# Altium integrated library Analog Devices Switches and Multiplexers Multiplexers (Muxes).IntLib: 481 symbols (part 9 of 23)
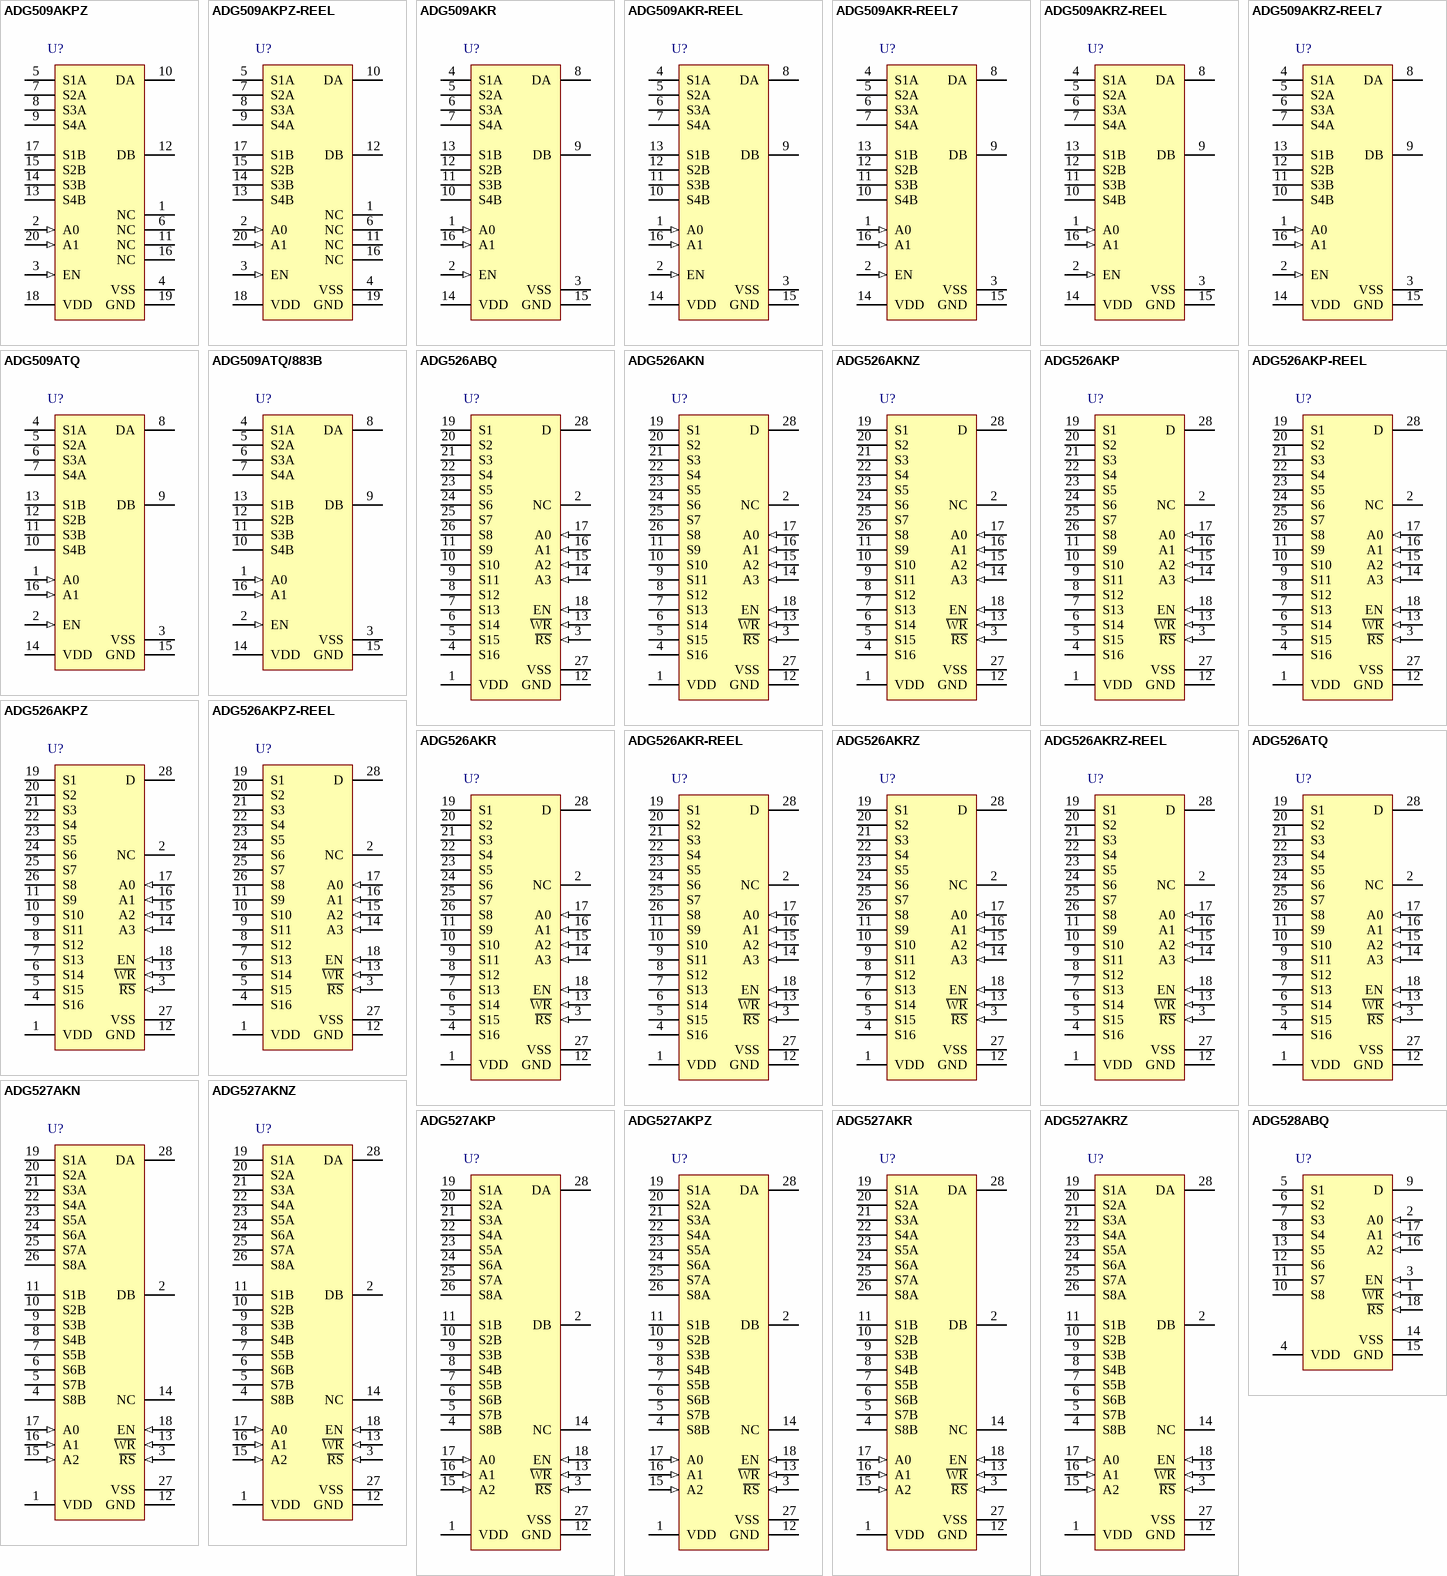
[diagram p25: symbols ADG509AKPZ to ADG528ABQ]

## ADG527AKRZ
designator U?
CMOS Latched 8-Channel Analog Multiplexer, -40 to 85 degC, 28-pin SOIC (RW-28), Tube; Manufacturer: Analog Devices; PartNumber: ADG527AKRZ; Max Analog Signal Range: Vss to Vdd; Ron (ohms): 280; Supply V Guar Performance: Dual_(+/-12V), Dual_(+/-15V), Single_(+12V), Single_(+15V); t transition (s): 200n; DatasheetVersion: Rev. C; PackageVersion: 060706-A, 06/2006; PackageReference: RW-28; PackageDescription: 28-Pin Standard Small Outline Package, Body 17.9 x 7.5 mm, Pitch 1.27 mm; Supplier 1: Mouser; Supplier Part Number 1: 584-ADG527AKRZ; Packing: Tube; Mounting Technology: Surface Mount; Code_JEDEC: MS-013-AE; ComponentLink1Description: Manufacturer URL; ComponentLink1URL: http://www.analog.com/en/index.html; ComponentLink2Description: Datasheet; ComponentLink2URL: http://www.analog.com/static/imported-files/data_sheets/ADG526A_527A.pdf; ComponentLink3Description: Package Specification; ComponentLink3URL: http://www.analog.com/static/imported-files/packages/35833120341221RW_28.pdf
footprint ADI-RW-28_N (SOIC, 28-Leads, Body 17.9x7.5mm, Pitch 1.27mm, IPC Medium Density)
footprint ADI-RW-28_L (SOIC, 28-Leads, Body 17.9x7.5mm, Pitch 1.27mm, IPC High Density)
footprint ADI-RW-28_M (SOIC, 28-Leads, Body 17.9x7.5mm, Pitch 1.27mm, IPC Low Density)
pins: 1 VDD (power) "Most Positive Power Supply Potential.", 2 DB "Drain Terminal. This pin can be an input or output.", 3 ~{RS} (in) "Reset. The R\S\ signal clears both the address and enable data in the latches resulting in no output (all switches off).", 4 S8B "Source Terminal. This pin can be an input or output.", 5 S7B "Source Terminal. This pin can be an input or output.", 6 S6B "Source Terminal. This pin can be an input or output.", 7 S5B "Source Terminal. This pin can be an input or output.", 8 S4B "Source Terminal. This pin can be an input or output.", 9 S3B "Source Terminal. This pin can be an input or output.", 10 S2B "Source Terminal. This pin can be an input or output.", 11 S1B "Source Terminal. This pin can be an input or output.", 12 GND (power) "Ground (0 V) Reference.", 13 ~{WR} (in) "Write. The W\R\ signal latches the state of the address control lines and the enable line.", 14 NC "No Connect.", 15 A2 (in) "Logic Control Inputs. Selects which source terminal is connected to the drain (D).", 16 A1 (in) "Logic Control Inputs. Selects which source terminal is connected to the drain (D).", 17 A0 (in) "Logic Control Inputs. Selects which source terminal is connected to the drain (D).", 18 EN (in) "Enable. Active high logic control input.", 19 S1A "Source Terminal. This pin can be an input or output.", 20 S2A "Source Terminal. This pin can be an input or output.", 21 S3A "Source Terminal. This pin can be an input or output.", 22 S4A "Source Terminal. This pin can be an input or output.", 23 S5A "Source Terminal. This pin can be an input or output.", 24 S6A "Source Terminal. This pin can be an input or output.", 25 S7A "Source Terminal. This pin can be an input or output.", 26 S8A "Source Terminal. This pin can be an input or output.", 27 VSS (power) "Most Negative Power Supply Potential.", 28 DA "Drain Terminal. This pin can be an input or output."

## ADG528ABQ
designator U?
CMOS Latched 8-Channel Analog Multiplexer, -40 to 85 degC, 18-pin DIP (Q-18); Manufacturer: Analog Devices; PartNumber: ADG528ABQ; Max Analog Signal Range: Vss to Vdd; Ron (ohms): 280; Supply V Guar Performance: Dual_(+/-12V), Dual_(+/-15V), Single_(+12V), Single_(+15V); t transition (s): 200n; DatasheetVersion: Rev. B; PackageVersion: Dec-04; PackageReference: Q-18; PackageDescription: 18-Pin Ceramic Dual In-Line Package, Row spacing 7.62 mm, Pitch 2.54 mm; Supplier 1: Digi-Key; Supplier Part Number 1: ADG528ABQ-ND; Mounting Technology: Through Hole; ComponentLink1Description: Manufacturer URL; ComponentLink1URL: http://www.analog.com/en/index.html; ComponentLink2Description: Datasheet; ComponentLink2URL: http://www.analog.com/static/imported-files/data_sheets/ADG528A_529A.pdf; ComponentLink3Description: Package Specification; ComponentLink3URL: http://www.analog.com/static/imported-files/packages/3949539816247344490Q_18.pdf
footprint ADI-Q-18 (DIP, 18-Leads, Body 24.38x6.73mm, Pitch 2.54mm)
pins: 1 ~{WR} (in), 2 A0 (in), 3 EN (in), 4 VDD (power), 5 S1, 6 S2, 7 S3, 8 S4, 9 D, 10 S8, 11 S7, 12 S6, 13 S5, 14 VSS (power), 15 GND (power), 16 A2 (in), 17 A1 (in), 18 ~{RS} (in)

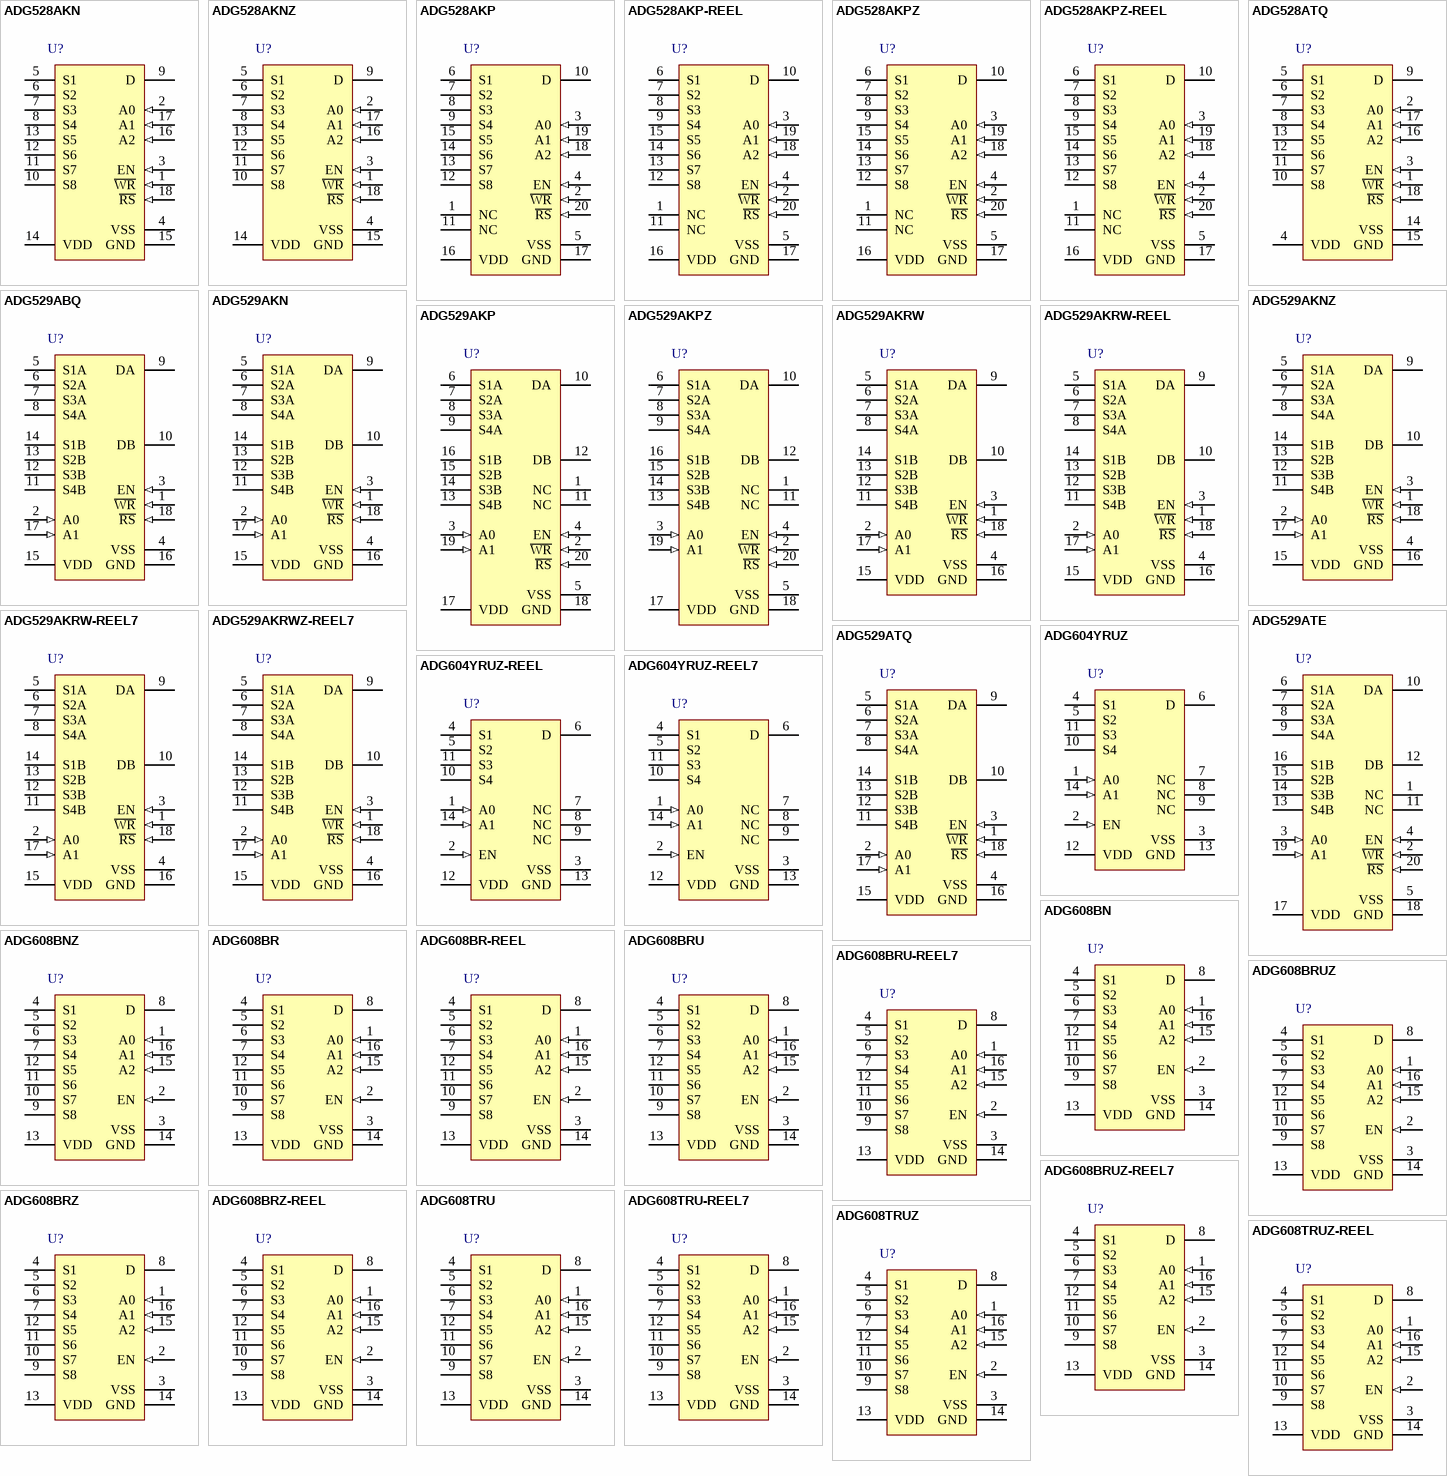
[diagram p7: symbols ADG528AKN to ADG608TRUZ-REEL]

## ADG528AKN
designator U?
CMOS Latched 8-Channel Analog Multiplexer, -40 to 85 degC, 18-pin DIP (N-18), Tube; Manufacturer: Analog Devices; PartNumber: ADG528AKN; Max Analog Signal Range: Vss to Vdd; Ron (ohms): 280; Supply V Guar Performance: Dual_(+/-12V), Dual_(+/-15V), Single_(+12V), Single_(+15V); t transition (s): 200n; DatasheetVersion: Rev. B; PackageVersion: 070706-A, 07/2006; PackageReference: N-18; PackageDescription: 18-Pin Plastic Dual In-Line Package, Row spacing 7.62 mm, Pitch 2.54 mm; Supplier 1: Digi-Key; Supplier Part Number 1: ADG528AKN-ND; Supplier 2: Mouser; Supplier Part Number 2: 584-ADG528AKN; Packing: Tube; Mounting Technology: Through Hole; Code_JEDEC: MS-001; ComponentLink1Description: Manufacturer URL; ComponentLink1URL: http://www.analog.com/en/index.html; ComponentLink2Description: Datasheet; ComponentLink2URL: http://www.analog.com/static/imported-files/data_sheets/ADG528A_529A.pdf; ComponentLink3Description: Package Specification; ComponentLink3URL: http://www.analog.com/static/imported-files/packages/44930452931834N_18.pdf
footprint ADI-N-18 (DIP, 18-Leads, Body 22.86x6.6mm, Pitch 2.54mm)
pins: 1 ~{WR} (in), 2 A0 (in), 3 EN (in), 4 VSS (power), 5 S1, 6 S2, 7 S3, 8 S4, 9 D, 10 S8, 11 S7, 12 S6, 13 S5, 14 VDD (power), 15 GND (power), 16 A2 (in), 17 A1 (in), 18 ~{RS} (in)

## ADG528AKNZ
designator U?
CMOS Latched 8-Channel Analog Multiplexer, -40 to 85 degC, 18-pin DIP (N-18), Tube; Manufacturer: Analog Devices; PartNumber: ADG528AKNZ; Max Analog Signal Range: Vss to Vdd; Ron (ohms): 280; Supply V Guar Performance: Dual_(+/-12V), Dual_(+/-15V), Single_(+12V), Single_(+15V); t transition (s): 200n; DatasheetVersion: Rev. B; PackageVersion: 070706-A, 07/2006; PackageReference: N-18; PackageDescription: 18-Pin Plastic Dual In-Line Package, Row spacing 7.62 mm, Pitch 2.54 mm; Supplier 1: Digi-Key; Supplier Part Number 1: ADG528AKNZ-ND; Supplier 2: Farnell; Supplier Part Number 2: 1581901; Supplier 3: Newark; Supplier Part Number 3: 19M0679; Supplier 4: Mouser; Supplier Part Number 4: 584-ADG528AKNZ; Packing: Tube; Mounting Technology: Through Hole; Code_JEDEC: MS-001; ComponentLink1Description: Manufacturer URL; ComponentLink1URL: http://www.analog.com/en/index.html; ComponentLink2Description: Datasheet; ComponentLink2URL: http://www.analog.com/static/imported-files/data_sheets/ADG528A_529A.pdf; ComponentLink3Description: Package Specification; ComponentLink3URL: http://www.analog.com/static/imported-files/packages/44930452931834N_18.pdf
footprint ADI-N-18 (DIP, 18-Leads, Body 22.86x6.6mm, Pitch 2.54mm)
pins: 1 ~{WR} (in), 2 A0 (in), 3 EN (in), 4 VSS (power), 5 S1, 6 S2, 7 S3, 8 S4, 9 D, 10 S8, 11 S7, 12 S6, 13 S5, 14 VDD (power), 15 GND (power), 16 A2 (in), 17 A1 (in), 18 ~{RS} (in)

## ADG528AKP
designator U?
CMOS Latched 8-Channel Analog Multiplexer, -40 to 85 degC, 20-pin PLCC (P-20A), Tube; Manufacturer: Analog Devices; PartNumber: ADG528AKP; Max Analog Signal Range: Vss to Vdd; Ron (ohms): 280; Supply V Guar Performance: Dual_(+/-12V), Dual_(+/-15V), Single_(+12V), Single_(+15V); t transition (s): 200n; DatasheetVersion: Rev. B; PackageVersion: Nov-02; PackageReference: P-20A; PackageDescription: 20-Pin Plastic Leaded Chip Carrier, Body 8.97 x 8.97 mm, Pitch 1.27 mm; Supplier 1: Digi-Key; Supplier Part Number 1: ADG528AKP-ND; Supplier 2: Mouser; Supplier Part Number 2: 584-ADG528AKP; Packing: Tube; Mounting Technology: Surface Mount; Code_JEDEC: MO-047AA; ComponentLink1Description: Manufacturer URL; ComponentLink1URL: http://www.analog.com/en/index.html; ComponentLink2Description: Datasheet; ComponentLink2URL: http://www.analog.com/static/imported-files/data_sheets/ADG528A_529A.pdf; ComponentLink3Description: Package Specification; ComponentLink3URL: http://www.analog.com/static/imported-files/packages/3121431516544404277643669223804694P20A.pdf
footprint ADI-P-20A_N (PLCC, 20-Leads, Body 8.965x8.965mm, Pitch 1.27mm, IPC Medium Density)
footprint ADI-P-20A_L (PLCC, 20-Leads, Body 8.965x8.965mm, Pitch 1.27mm, IPC High Density)
footprint ADI-P-20A_M (PLCC, 20-Leads, Body 8.965x8.965mm, Pitch 1.27mm, IPC Low Density)
pins: 1 NC, 2 ~{WR} (in), 3 A0 (in), 4 EN (in), 5 VSS (power), 6 S1, 7 S2, 8 S3, 9 S4, 10 D, 11 NC, 12 S8, 13 S7, 14 S6, 15 S5, 16 VDD (power), 17 GND (power), 18 A2 (in), 19 A1 (in), 20 ~{RS} (in)

## ADG528AKP-REEL
designator U?
CMOS Latched 8-Channel Analog Multiplexer, -40 to 85 degC, 20-pin PLCC (P-20A), Reel; Manufacturer: Analog Devices; PartNumber: ADG528AKP-REEL; Max Analog Signal Range: Vss to Vdd; Ron (ohms): 280; Supply V Guar Performance: Dual_(+/-12V), Dual_(+/-15V), Single_(+12V), Single_(+15V); t transition (s): 200n; DatasheetVersion: Rev. B; PackageVersion: Nov-02; PackageReference: P-20A; PackageDescription: 20-Pin Plastic Leaded Chip Carrier, Body 8.97 x 8.97 mm, Pitch 1.27 mm; Supplier 1: Digi-Key; Supplier Part Number 1: ADG528AKP-REEL-ND; Supplier 2: Newark; Supplier Part Number 2: 98B6987; Supplier 3: Mouser; Supplier Part Number 3: 584-ADG528AKP-R; Packing: Reel; Mounting Technology: Surface Mount; Code_JEDEC: MO-047AA; ComponentLink1Description: Manufacturer URL; ComponentLink1URL: http://www.analog.com/en/index.html; ComponentLink2Description: Datasheet; ComponentLink2URL: http://www.analog.com/static/imported-files/data_sheets/ADG528A_529A.pdf; ComponentLink3Description: Package Specification; ComponentLink3URL: http://www.analog.com/static/imported-files/packages/3121431516544404277643669223804694P20A.pdf
footprint ADI-P-20A_N (PLCC, 20-Leads, Body 8.965x8.965mm, Pitch 1.27mm, IPC Medium Density)
footprint ADI-P-20A_L (PLCC, 20-Leads, Body 8.965x8.965mm, Pitch 1.27mm, IPC High Density)
footprint ADI-P-20A_M (PLCC, 20-Leads, Body 8.965x8.965mm, Pitch 1.27mm, IPC Low Density)
pins: 1 NC, 2 ~{WR} (in), 3 A0 (in), 4 EN (in), 5 VSS (power), 6 S1, 7 S2, 8 S3, 9 S4, 10 D, 11 NC, 12 S8, 13 S7, 14 S6, 15 S5, 16 VDD (power), 17 GND (power), 18 A2 (in), 19 A1 (in), 20 ~{RS} (in)

## ADG528AKPZ
designator U?
CMOS Latched 8-Channel Analog Multiplexer, -40 to 85 degC, 20-pin PLCC (P-20A), Tube; Manufacturer: Analog Devices; PartNumber: ADG528AKPZ; Max Analog Signal Range: Vss to Vdd; Ron (ohms): 280; Supply V Guar Performance: Dual_(+/-12V), Dual_(+/-15V), Single_(+12V), Single_(+15V); t transition (s): 200n; DatasheetVersion: Rev. B; PackageVersion: Nov-02; PackageReference: P-20A; PackageDescription: 20-Pin Plastic Leaded Chip Carrier, Body 8.97 x 8.97 mm, Pitch 1.27 mm; Supplier 1: Digi-Key; Supplier Part Number 1: ADG528AKPZ-ND; Supplier 2: Newark; Supplier Part Number 2: 59K1397; Supplier 3: Mouser; Supplier Part Number 3: 584-ADG528AKPZ; Packing: Tube; Mounting Technology: Surface Mount; Code_JEDEC: MO-047AA; ComponentLink1Description: Manufacturer URL; ComponentLink1URL: http://www.analog.com/en/index.html; ComponentLink2Description: Datasheet; ComponentLink2URL: http://www.analog.com/static/imported-files/data_sheets/ADG528A_529A.pdf; ComponentLink3Description: Package Specification; ComponentLink3URL: http://www.analog.com/static/imported-files/packages/3121431516544404277643669223804694P20A.pdf
footprint ADI-P-20A_N (PLCC, 20-Leads, Body 8.965x8.965mm, Pitch 1.27mm, IPC Medium Density)
footprint ADI-P-20A_L (PLCC, 20-Leads, Body 8.965x8.965mm, Pitch 1.27mm, IPC High Density)
footprint ADI-P-20A_M (PLCC, 20-Leads, Body 8.965x8.965mm, Pitch 1.27mm, IPC Low Density)
pins: 1 NC, 2 ~{WR} (in), 3 A0 (in), 4 EN (in), 5 VSS (power), 6 S1, 7 S2, 8 S3, 9 S4, 10 D, 11 NC, 12 S8, 13 S7, 14 S6, 15 S5, 16 VDD (power), 17 GND (power), 18 A2 (in), 19 A1 (in), 20 ~{RS} (in)

## ADG528AKPZ-REEL
designator U?
CMOS Latched 8-Channel Analog Multiplexer, -40 to 85 degC, 20-pin PLCC (P-20A), Reel; Manufacturer: Analog Devices; PartNumber: ADG528AKPZ-REEL; Max Analog Signal Range: Vss to Vdd; Ron (ohms): 280; Supply V Guar Performance: Dual_(+/-12V), Dual_(+/-15V), Single_(+12V), Single_(+15V); t transition (s): 200n; DatasheetVersion: Rev. B; PackageVersion: Nov-02; PackageReference: P-20A; PackageDescription: 20-Pin Plastic Leaded Chip Carrier, Body 8.97 x 8.97 mm, Pitch 1.27 mm; Supplier 1: Digi-Key; Supplier Part Number 1: ADG528AKPZ-REEL-ND; Supplier 2: Newark; Supplier Part Number 2: 59K1398; Supplier 3: Mouser; Supplier Part Number 3: 584-ADG528AKPZ-R; Packing: Reel; Mounting Technology: Surface Mount; Code_JEDEC: MO-047AA; ComponentLink1Description: Manufacturer URL; ComponentLink1URL: http://www.analog.com/en/index.html; ComponentLink2Description: Datasheet; ComponentLink2URL: http://www.analog.com/static/imported-files/data_sheets/ADG528A_529A.pdf; ComponentLink3Description: Package Specification; ComponentLink3URL: http://www.analog.com/static/imported-files/packages/3121431516544404277643669223804694P20A.pdf
footprint ADI-P-20A_N (PLCC, 20-Leads, Body 8.965x8.965mm, Pitch 1.27mm, IPC Medium Density)
footprint ADI-P-20A_L (PLCC, 20-Leads, Body 8.965x8.965mm, Pitch 1.27mm, IPC High Density)
footprint ADI-P-20A_M (PLCC, 20-Leads, Body 8.965x8.965mm, Pitch 1.27mm, IPC Low Density)
pins: 1 NC, 2 ~{WR} (in), 3 A0 (in), 4 EN (in), 5 VSS (power), 6 S1, 7 S2, 8 S3, 9 S4, 10 D, 11 NC, 12 S8, 13 S7, 14 S6, 15 S5, 16 VDD (power), 17 GND (power), 18 A2 (in), 19 A1 (in), 20 ~{RS} (in)

## ADG528ATQ
designator U?
CMOS Latched 8-Channel Analog Multiplexer, -55 to 125 degC, 18-pin DIP (Q-18), Tube; Manufacturer: Analog Devices; PartNumber: ADG528ATQ; Max Analog Signal Range: Vss to Vdd; Ron (ohms): 280; Supply V Guar Performance: Dual_(+/-12V), Dual_(+/-15V), Single_(+12V), Single_(+15V); t transition (s): 200n; DatasheetVersion: Rev. B; PackageVersion: Dec-04; PackageReference: Q-18; PackageDescription: 18-Pin Ceramic Dual In-Line Package, Row spacing 7.62 mm, Pitch 2.54 mm; Supplier 1: Digi-Key; Supplier Part Number 1: ADG528ATQ-ND; Supplier 2: Newark; Supplier Part Number 2: 05F6245; Supplier 3: Mouser; Supplier Part Number 3: 584-ADG528ATQ; Packing: Tube; Mounting Technology: Through Hole; ComponentLink1Description: Manufacturer URL; ComponentLink1URL: http://www.analog.com/en/index.html; ComponentLink2Description: Datasheet; ComponentLink2URL: http://www.analog.com/static/imported-files/data_sheets/ADG528A_529A.pdf; ComponentLink3Description: Package Specification; ComponentLink3URL: http://www.analog.com/static/imported-files/packages/3949539816247344490Q_18.pdf
footprint ADI-Q-18 (DIP, 18-Leads, Body 24.38x6.73mm, Pitch 2.54mm)
pins: 1 ~{WR} (in), 2 A0 (in), 3 EN (in), 4 VDD (power), 5 S1, 6 S2, 7 S3, 8 S4, 9 D, 10 S8, 11 S7, 12 S6, 13 S5, 14 VSS (power), 15 GND (power), 16 A2 (in), 17 A1 (in), 18 ~{RS} (in)

## ADG529ABQ
designator U?
CMOS Latched 4-Channel Analog Multiplexer, -40 to 85 degC, 18-pin DIP (Q-18); Manufacturer: Analog Devices; PartNumber: ADG529ABQ; Max Analog Signal Range: Vss to Vdd; Ron (ohms): 280; Supply V Guar Performance: Dual_(+/-12V), Dual_(+/-15V), Single_(+12V), Single_(+15V); t transition (s): 200n; DatasheetVersion: Rev. B; PackageVersion: Dec-04; PackageReference: Q-18; PackageDescription: 18-Pin Ceramic Dual In-Line Package, Row spacing 7.62 mm, Pitch 2.54 mm; Supplier 1: Digi-Key; Supplier Part Number 1: ADG529ABQ-ND; Supplier 2: Mouser; Supplier Part Number 2: 584-ADG529ABQ; Mounting Technology: Through Hole; ComponentLink1Description: Manufacturer URL; ComponentLink1URL: http://www.analog.com/en/index.html; ComponentLink2Description: Datasheet; ComponentLink2URL: http://www.analog.com/static/imported-files/data_sheets/ADG528A_529A.pdf; ComponentLink3Description: Package Specification; ComponentLink3URL: http://www.analog.com/static/imported-files/packages/3949539816247344490Q_18.pdf
footprint ADI-Q-18 (DIP, 18-Leads, Body 24.38x6.73mm, Pitch 2.54mm)
pins: 1 ~{WR} (in), 2 A0 (in), 3 EN (in), 4 VSS (power) "Most negative voltage supply", 5 S1A, 6 S2A, 7 S3A, 8 S4A, 9 DA, 10 DB, 11 S4B, 12 S3B, 13 S2B, 14 S1B, 15 VDD (power) "Most positive voltage supply", 16 GND (power), 17 A1 (in), 18 ~{RS} (in)

## ADG529AKN
designator U?
CMOS Latched 4-Channel Analog Multiplexer, -40 to 85 degC, 18-pin DIP (N-18), Tube; Manufacturer: Analog Devices; PartNumber: ADG529AKN; Max Analog Signal Range: Vss to Vdd; Ron (ohms): 280; Supply V Guar Performance: Dual_(+/-12V), Dual_(+/-15V), Single_(+12V), Single_(+15V); t transition (s): 200n; DatasheetVersion: Rev. B; PackageVersion: 070706-A, 07/2006; PackageReference: N-18; PackageDescription: 18-Pin Plastic Dual In-Line Package, Row spacing 7.62 mm, Pitch 2.54 mm; Supplier 1: Digi-Key; Supplier Part Number 1: ADG529AKN-ND; Packing: Tube; Mounting Technology: Through Hole; Code_JEDEC: MS-001; ComponentLink1Description: Manufacturer URL; ComponentLink1URL: http://www.analog.com/en/index.html; ComponentLink2Description: Datasheet; ComponentLink2URL: http://www.analog.com/static/imported-files/data_sheets/ADG528A_529A.pdf; ComponentLink3Description: Package Specification; ComponentLink3URL: http://www.analog.com/static/imported-files/packages/44930452931834N_18.pdf
footprint ADI-N-18 (DIP, 18-Leads, Body 22.86x6.6mm, Pitch 2.54mm)
pins: 1 ~{WR} (in), 2 A0 (in), 3 EN (in), 4 VSS (power), 5 S1A, 6 S2A, 7 S3A, 8 S4A, 9 DA, 10 DB, 11 S4B, 12 S3B, 13 S2B, 14 S1B, 15 VDD (power), 16 GND (power), 17 A1 (in), 18 ~{RS} (in)

## ADG529AKNZ
designator U?
CMOS Latched 4-Channel Analog Multiplexer, -40 to 85 degC, 18-pin DIP (N-18), Tube; Manufacturer: Analog Devices; PartNumber: ADG529AKNZ; Max Analog Signal Range: Vss to Vdd; Ron (ohms): 280; Supply V Guar Performance: Dual_(+/-12V), Dual_(+/-15V), Single_(+12V), Single_(+15V); t transition (s): 200n; DatasheetVersion: Rev. B; PackageVersion: 070706-A, 07/2006; PackageReference: N-18; PackageDescription: 18-Pin Plastic Dual In-Line Package, Row spacing 7.62 mm, Pitch 2.54 mm; Supplier 1: Digi-Key; Supplier Part Number 1: ADG529AKNZ-ND; Supplier 2: Newark; Supplier Part Number 2: 59K1400; Supplier 3: Mouser; Supplier Part Number 3: 584-ADG529AKNZ; Packing: Tube; Mounting Technology: Through Hole; Code_JEDEC: MS-001; ComponentLink1Description: Manufacturer URL; ComponentLink1URL: http://www.analog.com/en/index.html; ComponentLink2Description: Datasheet; ComponentLink2URL: http://www.analog.com/static/imported-files/data_sheets/ADG528A_529A.pdf; ComponentLink3Description: Package Specification; ComponentLink3URL: http://www.analog.com/static/imported-files/packages/44930452931834N_18.pdf
footprint ADI-N-18 (DIP, 18-Leads, Body 22.86x6.6mm, Pitch 2.54mm)
pins: 1 ~{WR} (in), 2 A0 (in), 3 EN (in), 4 VSS (power), 5 S1A, 6 S2A, 7 S3A, 8 S4A, 9 DA, 10 DB, 11 S4B, 12 S3B, 13 S2B, 14 S1B, 15 VDD (power), 16 GND (power), 17 A1 (in), 18 ~{RS} (in)

## ADG529AKP
designator U?
CMOS Latched 4-Channel Analog Multiplexer, -40 to 85 degC, 18-pin PLCC (P-20A), Tube; Manufacturer: Analog Devices; PartNumber: ADG529AKP; Max Analog Signal Range: Vss to Vdd; Ron (ohms): 280; Supply V Guar Performance: Dual_(+/-12V), Dual_(+/-15V), Single_(+12V), Single_(+15V); t transition (s): 200n; DatasheetVersion: Rev. B; PackageVersion: Nov-02; PackageReference: P-20A; PackageDescription: 20-Pin Plastic Leaded Chip Carrier, Body 8.97 x 8.97 mm, Pitch 1.27 mm; Supplier 1: Digi-Key; Supplier Part Number 1: ADG529AKP-ND; Supplier 2: Mouser; Supplier Part Number 2: 584-ADG529AKP; Packing: Tube; Mounting Technology: Surface Mount; Code_JEDEC: MO-047AA; ComponentLink1Description: Manufacturer URL; ComponentLink1URL: http://www.analog.com/en/index.html; ComponentLink2Description: Datasheet; ComponentLink2URL: http://www.analog.com/static/imported-files/data_sheets/ADG528A_529A.pdf; ComponentLink3Description: Package Specification; ComponentLink3URL: http://www.analog.com/static/imported-files/packages/3121431516544404277643669223804694P20A.pdf
footprint ADI-P-20A_N (PLCC, 20-Leads, Body 8.965x8.965mm, Pitch 1.27mm, IPC Medium Density)
footprint ADI-P-20A_L (PLCC, 20-Leads, Body 8.965x8.965mm, Pitch 1.27mm, IPC High Density)
footprint ADI-P-20A_M (PLCC, 20-Leads, Body 8.965x8.965mm, Pitch 1.27mm, IPC Low Density)
pins: 1 NC "NO CONNECT", 2 ~{WR} (in), 3 A0 (in), 4 EN (in), 5 VSS (power), 6 S1A, 7 S2A, 8 S3A, 9 S4A, 10 DA, 11 NC "NO CONNECT", 12 DB, 13 S4B, 14 S3B, 15 S2B, 16 S1B, 17 VDD (power) "Most positive voltage supply", 18 GND (power), 19 A1 (in), 20 ~{RS} (in)

## ADG529AKPZ
designator U?
CMOS Latched 4-Channel Analog Multiplexer, -40 to 85 degC, 18-pin PLCC (P-20A), Tube; Manufacturer: Analog Devices; PartNumber: ADG529AKPZ; Max Analog Signal Range: Vss to Vdd; Ron (ohms): 280; Supply V Guar Performance: Dual_(+/-12V), Dual_(+/-15V), Single_(+12V), Single_(+15V); t transition (s): 200n; DatasheetVersion: Rev. B; PackageVersion: Nov-02; PackageReference: P-20A; PackageDescription: 20-Pin Plastic Leaded Chip Carrier, Body 8.97 x 8.97 mm, Pitch 1.27 mm; Supplier 1: Digi-Key; Supplier Part Number 1: ADG529AKPZ-ND; Supplier 2: Newark; Supplier Part Number 2: 82K7514; Supplier 3: Mouser; Supplier Part Number 3: 584-ADG529AKPZ; Packing: Tube; Mounting Technology: Surface Mount; Code_JEDEC: MO-047AA; ComponentLink1Description: Manufacturer URL; ComponentLink1URL: http://www.analog.com/en/index.html; ComponentLink2Description: Datasheet; ComponentLink2URL: http://www.analog.com/static/imported-files/data_sheets/ADG528A_529A.pdf; ComponentLink3Description: Package Specification; ComponentLink3URL: http://www.analog.com/static/imported-files/packages/3121431516544404277643669223804694P20A.pdf
footprint ADI-P-20A_N (PLCC, 20-Leads, Body 8.965x8.965mm, Pitch 1.27mm, IPC Medium Density)
footprint ADI-P-20A_L (PLCC, 20-Leads, Body 8.965x8.965mm, Pitch 1.27mm, IPC High Density)
footprint ADI-P-20A_M (PLCC, 20-Leads, Body 8.965x8.965mm, Pitch 1.27mm, IPC Low Density)
pins: 1 NC "NO CONNECT", 2 ~{WR} (in), 3 A0 (in), 4 EN (in), 5 VSS (power), 6 S1A, 7 S2A, 8 S3A, 9 S4A, 10 DA, 11 NC "NO CONNECT", 12 DB, 13 S4B, 14 S3B, 15 S2B, 16 S1B, 17 VDD (power) "Most positive voltage supply", 18 GND (power), 19 A1 (in), 20 ~{RS} (in)

## ADG529AKRW
designator U?
CMOS Latched 4-Channel Analog Multiplexer, -40 to 85 degC, 18-pin SOIC (RW-18), Tube; Manufacturer: Analog Devices; PartNumber: ADG529AKRW; Max Analog Signal Range: Vss to Vdd; Ron (ohms): 280; Supply V Guar Performance: Dual_(+/-12V), Dual_(+/-15V), Single_(+12V), Single_(+15V); t transition (s): 200n; DatasheetVersion: Rev. B; PackageVersion: 060706-A, 06/2006; PackageReference: RW-18; PackageDescription: 18-Pin Standard Small Outline Package, Body 11.55 x 7.5 mm, Pitch 1.27 mm; Supplier 1: Digi-Key; Supplier Part Number 1: ADG529AKRW-ND; Packing: Tube; Mounting Technology: Surface Mount; Code_JEDEC: MS-013-AB; ComponentLink1Description: Manufacturer URL; ComponentLink1URL: http://www.analog.com/en/index.html; ComponentLink2Description: Datasheet; ComponentLink2URL: http://www.analog.com/static/imported-files/data_sheets/ADG528A_529A.pdf; ComponentLink3Description: Package Specification; ComponentLink3URL: http://www.analog.com/static/imported-files/packages/33254132129439RW_18.pdf
footprint ADI-RW-18_N (SOIC, 18-Leads, Body 11.55x7.5mm, Pitch 1.27mm, IPC Medium Density)
footprint ADI-RW-18_L (SOIC, 18-Leads, Body 11.55x7.5mm, Pitch 1.27mm, IPC High Density)
footprint ADI-RW-18_M (SOIC, 18-Leads, Body 11.55x7.5mm, Pitch 1.27mm, IPC Low Density)
pins: 1 ~{WR} (in), 2 A0 (in), 3 EN (in), 4 VSS (power), 5 S1A, 6 S2A, 7 S3A, 8 S4A, 9 DA, 10 DB, 11 S4B, 12 S3B, 13 S2B, 14 S1B, 15 VDD (power), 16 GND (power), 17 A1 (in), 18 ~{RS} (in)

## ADG529AKRW-REEL
designator U?
CMOS Latched 4-Channel Analog Multiplexer, -40 to 85 degC, 18-pin SOIC (RW-18), Reel; Manufacturer: Analog Devices; PartNumber: ADG529AKRW-REEL; Max Analog Signal Range: Vss to Vdd; Ron (ohms): 280; Supply V Guar Performance: Dual_(+/-12V), Dual_(+/-15V), Single_(+12V), Single_(+15V); t transition (s): 200n; DatasheetVersion: Rev. B; PackageVersion: 060706-A, 06/2006; PackageReference: RW-18; PackageDescription: 18-Pin Standard Small Outline Package, Body 11.55 x 7.5 mm, Pitch 1.27 mm; Supplier 1: Digi-Key; Supplier Part Number 1: ADG529AKRW-REELTR-ND; Supplier 2: Digi-Key; Supplier Part Number 2: ADG529AKRW-REELCT-ND; Supplier 3: Digi-Key; Supplier Part Number 3: ADG529AKRW-REELDKR-ND; Supplier 4: Mouser; Supplier Part Number 4: 584-ADG529AKRW-R; Packing: Reel; Mounting Technology: Surface Mount; Code_JEDEC: MS-013-AB; ComponentLink1Description: Manufacturer URL; ComponentLink1URL: http://www.analog.com/en/index.html; ComponentLink2Description: Datasheet; ComponentLink2URL: http://www.analog.com/static/imported-files/data_sheets/ADG528A_529A.pdf; ComponentLink3Description: Package Specification; ComponentLink3URL: http://www.analog.com/static/imported-files/packages/33254132129439RW_18.pdf
footprint ADI-RW-18_N (SOIC, 18-Leads, Body 11.55x7.5mm, Pitch 1.27mm, IPC Medium Density)
footprint ADI-RW-18_L (SOIC, 18-Leads, Body 11.55x7.5mm, Pitch 1.27mm, IPC High Density)
footprint ADI-RW-18_M (SOIC, 18-Leads, Body 11.55x7.5mm, Pitch 1.27mm, IPC Low Density)
pins: 1 ~{WR} (in), 2 A0 (in), 3 EN (in), 4 VSS (power), 5 S1A, 6 S2A, 7 S3A, 8 S4A, 9 DA, 10 DB, 11 S4B, 12 S3B, 13 S2B, 14 S1B, 15 VDD (power), 16 GND (power), 17 A1 (in), 18 ~{RS} (in)

## ADG529AKRW-REEL7
designator U?
CMOS Latched 4-Channel Analog Multiplexer, -40 to 85 degC, 18-pin SOIC (RW-18), Reel; Manufacturer: Analog Devices; PartNumber: ADG529AKRW-REEL7; Max Analog Signal Range: Vss to Vdd; Ron (ohms): 280; Supply V Guar Performance: Dual_(+/-12V), Dual_(+/-15V), Single_(+12V), Single_(+15V); t transition (s): 200n; DatasheetVersion: Rev. B; PackageVersion: 060706-A, 06/2006; PackageReference: RW-18; PackageDescription: 18-Pin Standard Small Outline Package, Body 11.55 x 7.5 mm, Pitch 1.27 mm; Supplier 1: Digi-Key; Supplier Part Number 1: ADG529AKRW-REEL7TR-ND; Supplier 2: Digi-Key; Supplier Part Number 2: ADG529AKRW-REEL7CT-ND; Supplier 3: Digi-Key; Supplier Part Number 3: ADG529AKRW-REEL7DKR-ND; Supplier 4: Mouser; Supplier Part Number 4: 584-ADG529AKRW-R7; Packing: Reel; Mounting Technology: Surface Mount; Code_JEDEC: MS-013-AB; ComponentLink1Description: Manufacturer URL; ComponentLink1URL: http://www.analog.com/en/index.html; ComponentLink2Description: Datasheet; ComponentLink2URL: http://www.analog.com/static/imported-files/data_sheets/ADG528A_529A.pdf; ComponentLink3Description: Package Specification; ComponentLink3URL: http://www.analog.com/static/imported-files/packages/33254132129439RW_18.pdf
footprint ADI-RW-18_N (SOIC, 18-Leads, Body 11.55x7.5mm, Pitch 1.27mm, IPC Medium Density)
footprint ADI-RW-18_L (SOIC, 18-Leads, Body 11.55x7.5mm, Pitch 1.27mm, IPC High Density)
footprint ADI-RW-18_M (SOIC, 18-Leads, Body 11.55x7.5mm, Pitch 1.27mm, IPC Low Density)
pins: 1 ~{WR} (in), 2 A0 (in), 3 EN (in), 4 VSS (power), 5 S1A, 6 S2A, 7 S3A, 8 S4A, 9 DA, 10 DB, 11 S4B, 12 S3B, 13 S2B, 14 S1B, 15 VDD (power), 16 GND (power), 17 A1 (in), 18 ~{RS} (in)

## ADG529AKRWZ-REEL7
designator U?
CMOS Latched 4-Channel Analog Multiplexer, -40 to 85 degC, 18-pin SOIC (RW-18), Reel; Manufacturer: Analog Devices; PartNumber: ADG529AKRWZ-REEL7; Max Analog Signal Range: Vss to Vdd; Ron (ohms): 280; Supply V Guar Performance: Dual_(+/-12V), Dual_(+/-15V), Single_(+12V), Single_(+15V); t transition (s): 200n; DatasheetVersion: Rev. B; PackageVersion: 060706-A, 06/2006; PackageReference: RW-18; PackageDescription: 18-Pin Standard Small Outline Package, Body 11.55 x 7.5 mm, Pitch 1.27 mm; Supplier 1: Digi-Key; Supplier Part Number 1: ADG529AKRWZ-REEL7TR-ND; Supplier 2: Digi-Key; Supplier Part Number 2: ADG529AKRWZ-REEL7CT-ND; Supplier 3: Digi-Key; Supplier Part Number 3: ADG529AKRWZ-REEL7DKR-ND; Supplier 4: Mouser; Supplier Part Number 4: 584-ADG529AKRWZ-R7; Packing: Reel; Mounting Technology: Surface Mount; Code_JEDEC: MS-013-AB; ComponentLink1Description: Manufacturer URL; ComponentLink1URL: http://www.analog.com/en/index.html; ComponentLink2Description: Datasheet; ComponentLink2URL: http://www.analog.com/static/imported-files/data_sheets/ADG528A_529A.pdf; ComponentLink3Description: Package Specification; ComponentLink3URL: http://www.analog.com/static/imported-files/packages/33254132129439RW_18.pdf
footprint ADI-RW-18_N (SOIC, 18-Leads, Body 11.55x7.5mm, Pitch 1.27mm, IPC Medium Density)
footprint ADI-RW-18_L (SOIC, 18-Leads, Body 11.55x7.5mm, Pitch 1.27mm, IPC High Density)
footprint ADI-RW-18_M (SOIC, 18-Leads, Body 11.55x7.5mm, Pitch 1.27mm, IPC Low Density)
pins: 1 ~{WR} (in), 2 A0 (in), 3 EN (in), 4 VSS (power), 5 S1A, 6 S2A, 7 S3A, 8 S4A, 9 DA, 10 DB, 11 S4B, 12 S3B, 13 S2B, 14 S1B, 15 VDD (power), 16 GND (power), 17 A1 (in), 18 ~{RS} (in)

## ADG529ATE
designator U?
CMOS Latched 4-Channel Analog Multiplexer, -55 to 125 degC, 18-pin LCC (E-20-1), Tube; Manufacturer: Analog Devices; PartNumber: ADG529ATE; Max Analog Signal Range: Vss to Vdd; Ron (ohms): 280; Supply V Guar Performance: Dual_(+/-12V), Dual_(+/-15V), Single_(+12V), Single_(+15V); t transition (s): 200n; DatasheetVersion: Rev. B; PackageVersion: Nov-02; PackageReference: P-20A; PackageDescription: 20-Pin Plastic Leaded Chip Carrier, Body 8.97 x 8.97 mm, Pitch 1.27 mm; Supplier 1: Mouser; Supplier Part Number 1: N/A; Packing: Tube; Mounting Technology: Surface Mount; Code_JEDEC: MO-047AA; ComponentLink1Description: Manufacturer URL; ComponentLink1URL: http://www.analog.com/en/index.html; ComponentLink2Description: Datasheet; ComponentLink2URL: http://www.analog.com/static/imported-files/data_sheets/ADG528A_529A.pdf; ComponentLink3Description: Package Specification; ComponentLink3URL: http://www.analog.com/static/imported-files/packages/3121431516544404277643669223804694P20A.pdf
footprint ADI-P-20A_N (PLCC, 20-Leads, Body 8.965x8.965mm, Pitch 1.27mm, IPC Medium Density)
footprint ADI-P-20A_L (PLCC, 20-Leads, Body 8.965x8.965mm, Pitch 1.27mm, IPC High Density)
footprint ADI-P-20A_M (PLCC, 20-Leads, Body 8.965x8.965mm, Pitch 1.27mm, IPC Low Density)
pins: 1 NC, 2 ~{WR} (in), 3 A0 (in), 4 EN (in), 5 VSS (power), 6 S1A, 7 S2A, 8 S3A, 9 S4A, 10 DA, 11 NC, 12 DB, 13 S4B, 14 S3B, 15 S2B, 16 S1B, 17 VDD (power), 18 GND (power), 19 A1 (in), 20 ~{RS} (in)

## ADG529ATQ
designator U?
CMOS Latched 4-Channel Analog Multiplexer, -55 to 125 degC, 18-pin DIP (Q-18), Tube; Manufacturer: Analog Devices; PartNumber: ADG529ATQ; Max Analog Signal Range: Vss to Vdd; Ron (ohms): 280; Supply V Guar Performance: Dual_(+/-12V), Dual_(+/-15V), Single_(+12V), Single_(+15V); t transition (s): 200n; DatasheetVersion: Rev. B; PackageVersion: Dec-04; PackageReference: Q-18; PackageDescription: 18-Pin Ceramic Dual In-Line Package, Row spacing 7.62 mm, Pitch 2.54 mm; Supplier 1: Mouser; Supplier Part Number 1: N/A; Packing: Tube; Mounting Technology: Through Hole; ComponentLink1Description: Manufacturer URL; ComponentLink1URL: http://www.analog.com/en/index.html; ComponentLink2Description: Datasheet; ComponentLink2URL: http://www.analog.com/static/imported-files/data_sheets/ADG528A_529A.pdf; ComponentLink3Description: Package Specification; ComponentLink3URL: http://www.analog.com/static/imported-files/packages/3949539816247344490Q_18.pdf
footprint ADI-Q-18 (DIP, 18-Leads, Body 24.38x6.73mm, Pitch 2.54mm)
pins: 1 ~{WR} (in), 2 A0 (in), 3 EN (in), 4 VSS (power) "Most negative voltage supply", 5 S1A, 6 S2A, 7 S3A, 8 S4A, 9 DA, 10 DB, 11 S4B, 12 S3B, 13 S2B, 14 S1B, 15 VDD (power) "Most positive voltage supply", 16 GND (power), 17 A1 (in), 18 ~{RS} (in)

## ADG604YRUZ
designator U?
1 pC Charge Injection, 100 pA Leakage CMOS 3 V / 5 V / +/-5 V 4-Channel Multiplexer, -40 to 125 degC, 14-pin SOP (RU-14), Tube; Manufacturer: Analog Devices; PartNumber: ADG604YRUZ; Bandwidth (Hz): 280M; Max Analog Signal Range: Vss to Vdd; Ron (ohms): 85; Supply V Guar Performance: Dual_(+/-3.3V), Dual_(+/-3V), Dual_(+/-5V), Single_(+3.3V), Single_(+3V), Single_(+5V); t transition (s): 70n; DatasheetVersion: Rev. 0; PackageVersion: Aug-02; PackageReference: RU-14; PackageDescription: 14-Pin Thin Shrink Small Outline Package, Body 5 x 4.4 mm, Pitch 0.65 mm; Supplier 1: Digi-Key; Supplier Part Number 1: ADG604YRUZ-ND; Supplier 2: Farnell; Supplier Part Number 2: 1438751; Supplier 3: Newark; Supplier Part Number 3: 19M8663; Supplier 4: Mouser; Supplier Part Number 4: 584-ADG604YRUZ; Packing: Tube; Mounting Technology: Surface Mount; Code_JEDEC: MO-153AB-1; ComponentLink1Description: Manufacturer URL; ComponentLink1URL: http://www.analog.com/en/index.html; ComponentLink2Description: Datasheet; ComponentLink2URL: http://www.analog.com/static/imported-files/data_sheets/ADG604.pdf; ComponentLink3Description: Package Specification; ComponentLink3URL: http://www.analog.com/static/imported-files/packages/36057385283879153717235186773RU14.pdf
footprint ADI-RU-14_N (SOP, 14-Leads, Body 5x4.4mm, Pitch 0.65mm, IPC Medium Density)
footprint ADI-RU-14_L (SOP, 14-Leads, Body 5x4.4mm, Pitch 0.65mm, IPC High Density)
footprint ADI-RU-14_M (SOP, 14-Leads, Body 5x4.4mm, Pitch 0.65mm, IPC Low Density)
pins: 1 A0 (in), 2 EN (in), 3 VSS (power) "Most Negative Power Supply in a Dual Supply Application. In single supply applications, this should be tied to ground at the device.", 4 S1 "Source Terminal. May be an input or output.", 5 S2 "Source Terminal. May be an input or output.", 6 D "Drain Terminal. May be an input or output.", 7 NC, 8 NC, 9 NC, 10 S4 "Source Terminal. May be an input or output.", 11 S3 "Source Terminal. May be an input or output.", 12 VDD (power) "Most Positive Power Supply Potential", 13 GND (power) "Ground (0 V) Reference", 14 A1 (in)

## ADG604YRUZ-REEL
designator U?
1 pC Charge Injection, 100 pA Leakage CMOS 3 V / 5 V / +/-5 V 4-Channel Multiplexer, -40 to 125 degC, 14-pin SOP (RU-14), Reel; Manufacturer: Analog Devices; PartNumber: ADG604YRUZ-REEL; Bandwidth (Hz): 280M; Max Analog Signal Range: Vss to Vdd; Ron (ohms): 85; Supply V Guar Performance: Dual_(+/-3.3V), Dual_(+/-3V), Dual_(+/-5V), Single_(+3.3V), Single_(+3V), Single_(+5V); t transition (s): 70n; DatasheetVersion: Rev. 0; PackageVersion: Aug-02; PackageReference: RU-14; PackageDescription: 14-Pin Thin Shrink Small Outline Package, Body 5 x 4.4 mm, Pitch 0.65 mm; Supplier 1: Digi-Key; Supplier Part Number 1: ADG604YRUZ-REEL-ND; Packing: Reel; Mounting Technology: Surface Mount; Code_JEDEC: MO-153AB-1; ComponentLink1Description: Manufacturer URL; ComponentLink1URL: http://www.analog.com/en/index.html; ComponentLink2Description: Datasheet; ComponentLink2URL: http://www.analog.com/static/imported-files/data_sheets/ADG604.pdf; ComponentLink3Description: Package Specification; ComponentLink3URL: http://www.analog.com/static/imported-files/packages/36057385283879153717235186773RU14.pdf
footprint ADI-RU-14_N (SOP, 14-Leads, Body 5x4.4mm, Pitch 0.65mm, IPC Medium Density)
footprint ADI-RU-14_L (SOP, 14-Leads, Body 5x4.4mm, Pitch 0.65mm, IPC High Density)
footprint ADI-RU-14_M (SOP, 14-Leads, Body 5x4.4mm, Pitch 0.65mm, IPC Low Density)
pins: 1 A0 (in), 2 EN (in), 3 VSS (power) "Most Negative Power Supply in a Dual Supply Application. In single supply applications, this should be tied to ground at the device.", 4 S1 "Source Terminal. May be an input or output.", 5 S2 "Source Terminal. May be an input or output.", 6 D "Drain Terminal. May be an input or output.", 7 NC, 8 NC, 9 NC, 10 S4 "Source Terminal. May be an input or output.", 11 S3 "Source Terminal. May be an input or output.", 12 VDD (power) "Most Positive Power Supply Potential", 13 GND (power) "Ground (0 V) Reference", 14 A1 (in)

## ADG604YRUZ-REEL7
designator U?
1 pC Charge Injection, 100 pA Leakage CMOS 3 V / 5 V / +/-5 V 4-Channel Multiplexer, -40 to 125 degC, 14-pin SOP (RU-14), Reel; Manufacturer: Analog Devices; PartNumber: ADG604YRUZ-REEL7; Bandwidth (Hz): 280M; Max Analog Signal Range: Vss to Vdd; Ron (ohms): 85; Supply V Guar Performance: Dual_(+/-3.3V), Dual_(+/-3V), Dual_(+/-5V), Single_(+3.3V), Single_(+3V), Single_(+5V); t transition (s): 70n; DatasheetVersion: Rev. 0; PackageVersion: Aug-02; PackageReference: RU-14; PackageDescription: 14-Pin Thin Shrink Small Outline Package, Body 5 x 4.4 mm, Pitch 0.65 mm; Supplier 1: Digi-Key; Supplier Part Number 1: ADG604YRUZ-REEL7TR-ND; Supplier 2: Digi-Key; Supplier Part Number 2: ADG604YRUZ-REEL7CT-ND; Supplier 3: Digi-Key; Supplier Part Number 3: ADG604YRUZ-REEL7DKR-ND; Supplier 4: Mouser; Supplier Part Number 4: 584-ADG604YRUZ-R7; Packing: Reel; Mounting Technology: Surface Mount; Code_JEDEC: MO-153AB-1; ComponentLink1Description: Manufacturer URL; ComponentLink1URL: http://www.analog.com/en/index.html; ComponentLink2Description: Datasheet; ComponentLink2URL: http://www.analog.com/static/imported-files/data_sheets/ADG604.pdf; ComponentLink3Description: Package Specification; ComponentLink3URL: http://www.analog.com/static/imported-files/packages/36057385283879153717235186773RU14.pdf
footprint ADI-RU-14_N (SOP, 14-Leads, Body 5x4.4mm, Pitch 0.65mm, IPC Medium Density)
footprint ADI-RU-14_L (SOP, 14-Leads, Body 5x4.4mm, Pitch 0.65mm, IPC High Density)
footprint ADI-RU-14_M (SOP, 14-Leads, Body 5x4.4mm, Pitch 0.65mm, IPC Low Density)
pins: 1 A0 (in), 2 EN (in), 3 VSS (power) "Most Negative Power Supply in a Dual Supply Application. In single supply applications, this should be tied to ground at the device.", 4 S1 "Source Terminal. May be an input or output.", 5 S2 "Source Terminal. May be an input or output.", 6 D "Drain Terminal. May be an input or output.", 7 NC, 8 NC, 9 NC, 10 S4 "Source Terminal. May be an input or output.", 11 S3 "Source Terminal. May be an input or output.", 12 VDD (power) "Most Positive Power Supply Potential", 13 GND (power) "Ground (0 V) Reference", 14 A1 (in)

## ADG608BN
designator U?
3 V / 5 V, 8 Channel High Performance Analog Multiplexer, -40 to 85 degC, 16-pin DIP (N-16), Tube; Manufacturer: Analog Devices; PartNumber: ADG608BN; Max Analog Signal Range: Vss to Vdd; Ron (ohms): 22; Supply V Guar Performance: Dual_(+/-3.3V), Dual_(+/-5V), Single_(+3.3V), Single_(+5V); t transition (s): 50n; DatasheetVersion: Rev. A; PackageVersion: 070706-A, 07/2006; PackageReference: N-16; PackageDescription: 16-Pin Plastic Dual In-Line Package, Row spacing 7.62 mm, Pitch 2.54 mm; Supplier 1: Digi-Key; Supplier Part Number 1: ADG608BN-ND; Packing: Tube; Mounting Technology: Through Hole; Code_JEDEC: MS-001; ComponentLink1Description: Manufacturer URL; ComponentLink1URL: http://www.analog.com/en/index.html; ComponentLink2Description: Datasheet; ComponentLink2URL: http://www.analog.com/static/imported-files/data_sheets/ADG608_609.pdf; ComponentLink3Description: Package Specification; ComponentLink3URL: http://www.analog.com/static/imported-files/packages/44768431550332N_16.pdf
footprint ADI-N-16 (DIP, 16-Leads, Body 20.07x6.6mm, Pitch 2.54mm)
pins: 1 A0 (in), 2 EN (in), 3 VSS (power), 4 S1, 5 S2, 6 S3, 7 S4, 8 D, 9 S8, 10 S7, 11 S6, 12 S5, 13 VDD (power), 14 GND (power), 15 A2 (in), 16 A1 (in)

## ADG608BNZ
designator U?
3 V / 5 V, 8 Channel High Performance Analog Multiplexer, -40 to 85 degC, 16-pin DIP (N-16), Tube; Manufacturer: Analog Devices; PartNumber: ADG608BNZ; Max Analog Signal Range: Vss to Vdd; Ron (ohms): 22; Supply V Guar Performance: Dual_(+/-3.3V), Dual_(+/-5V), Single_(+3.3V), Single_(+5V); t transition (s): 50n; DatasheetVersion: Rev. A; PackageVersion: 070706-A, 07/2006; PackageReference: N-16; PackageDescription: 16-Pin Plastic Dual In-Line Package, Row spacing 7.62 mm, Pitch 2.54 mm; Supplier 1: Digi-Key; Supplier Part Number 1: ADG608BNZ-ND; Supplier 2: Farnell; Supplier Part Number 2: 1438752; Supplier 3: Newark; Supplier Part Number 3: 59K1417; Supplier 4: Mouser; Supplier Part Number 4: 584-ADG608BNZ; Packing: Tube; Mounting Technology: Through Hole; Code_JEDEC: MS-001; ComponentLink1Description: Manufacturer URL; ComponentLink1URL: http://www.analog.com/en/index.html; ComponentLink2Description: Datasheet; ComponentLink2URL: http://www.analog.com/static/imported-files/data_sheets/ADG608_609.pdf; ComponentLink3Description: Package Specification; ComponentLink3URL: http://www.analog.com/static/imported-files/packages/44768431550332N_16.pdf
footprint ADI-N-16 (DIP, 16-Leads, Body 20.07x6.6mm, Pitch 2.54mm)
pins: 1 A0 (in), 2 EN (in), 3 VSS (power), 4 S1, 5 S2, 6 S3, 7 S4, 8 D, 9 S8, 10 S7, 11 S6, 12 S5, 13 VDD (power), 14 GND (power), 15 A2 (in), 16 A1 (in)

## ADG608BR
designator U?
3 V / 5 V, 8 Channel High Performance Analog Multiplexer, -40 to 85 degC, 16-pin SOIC (R-16), Tube; Manufacturer: Analog Devices; PartNumber: ADG608BR; Max Analog Signal Range: Vss to Vdd; Ron (ohms): 22; Supply V Guar Performance: Dual_(+/-3.3V), Dual_(+/-5V), Single_(+3.3V), Single_(+5V); t transition (s): 50n; DatasheetVersion: Rev. A; PackageVersion: 060606-A, 06/2006; PackageReference: R-16; PackageDescription: 16-Pin Standard Small Outline Package, Body 9.9 x 3.9 mm, Pitch 1.27 mm; Supplier 1: Digi-Key; Supplier Part Number 1: ADG608BR-ND; Supplier 2: Mouser; Supplier Part Number 2: 584-ADG608BR; Packing: Tube; Mounting Technology: Surface Mount; Code_JEDEC: MS-012-AC; ComponentLink1Description: Manufacturer URL; ComponentLink1URL: http://www.analog.com/en/index.html; ComponentLink2Description: Datasheet; ComponentLink2URL: http://www.analog.com/static/imported-files/data_sheets/ADG608_609.pdf; ComponentLink3Description: Package Specification; ComponentLink3URL: http://www.analog.com/static/imported-files/packages/PKG_PDF/SOIC_Narrow%20(R)/R_16.pdf
footprint ADI-R-16_N (SOIC, 16-Leads, Body 9.9x3.9mm, Pitch 1.27mm, IPC Medium Density)
footprint ADI-R-16_L (SOIC, 16-Leads, Body 9.9x3.9mm, Pitch 1.27mm, IPC High Density)
footprint ADI-R-16_M (SOIC, 16-Leads, Body 9.9x3.9mm, Pitch 1.27mm, IPC Low Density)
pins: 1 A0 (in), 2 EN (in), 3 VSS (power), 4 S1, 5 S2, 6 S3, 7 S4, 8 D, 9 S8, 10 S7, 11 S6, 12 S5, 13 VDD (power), 14 GND (power), 15 A2 (in), 16 A1 (in)

## ADG608BR-REEL
designator U?
3 V / 5 V, 8 Channel High Performance Analog Multiplexer, -40 to 85 degC, 16-pin SOIC (R-16), Reel; Manufacturer: Analog Devices; PartNumber: ADG608BR-REEL; Max Analog Signal Range: Vss to Vdd; Ron (ohms): 22; Supply V Guar Performance: Dual_(+/-3.3V), Dual_(+/-5V), Single_(+3.3V), Single_(+5V); t transition (s): 50n; DatasheetVersion: Rev. A; PackageVersion: 060606-A, 06/2006; PackageReference: R-16; PackageDescription: 16-Pin Standard Small Outline Package, Body 9.9 x 3.9 mm, Pitch 1.27 mm; Supplier 1: Digi-Key; Supplier Part Number 1: ADG608BR-REEL-ND; Supplier 2: Newark; Supplier Part Number 2: 09B7119; Supplier 3: Mouser; Supplier Part Number 3: 584-ADG608BR-R; Packing: Reel; Mounting Technology: Surface Mount; Code_JEDEC: MS-012-AC; ComponentLink1Description: Manufacturer URL; ComponentLink1URL: http://www.analog.com/en/index.html; ComponentLink2Description: Datasheet; ComponentLink2URL: http://www.analog.com/static/imported-files/data_sheets/ADG608_609.pdf; ComponentLink3Description: Package Specification; ComponentLink3URL: http://www.analog.com/static/imported-files/packages/PKG_PDF/SOIC_Narrow%20(R)/R_16.pdf
footprint ADI-R-16_N (SOIC, 16-Leads, Body 9.9x3.9mm, Pitch 1.27mm, IPC Medium Density)
footprint ADI-R-16_L (SOIC, 16-Leads, Body 9.9x3.9mm, Pitch 1.27mm, IPC High Density)
footprint ADI-R-16_M (SOIC, 16-Leads, Body 9.9x3.9mm, Pitch 1.27mm, IPC Low Density)
pins: 1 A0 (in), 2 EN (in), 3 VSS (power), 4 S1, 5 S2, 6 S3, 7 S4, 8 D, 9 S8, 10 S7, 11 S6, 12 S5, 13 VDD (power), 14 GND (power), 15 A2 (in), 16 A1 (in)

## ADG608BRU
designator U?
3 V / 5 V, 8 Channel High Performance Analog Multiplexer, -40 to 85 degC, 16-pin SOP (RU-16), Tube; Manufacturer: Analog Devices; PartNumber: ADG608BRU; Max Analog Signal Range: Vss to Vdd; Ron (ohms): 22; Supply V Guar Performance: Dual_(+/-3.3V), Dual_(+/-5V), Single_(+3.3V), Single_(+5V); t transition (s): 50n; DatasheetVersion: Rev. A; PackageVersion: Nov-02; PackageReference: RU-16; PackageDescription: 16-Pin Thin Shrink Small Outline Package, Body 5 x 4.4 mm, Pitch 0.65 mm; Supplier 1: Digi-Key; Supplier Part Number 1: ADG608BRU-ND; Supplier 2: Newark; Supplier Part Number 2: 16F6552; Supplier 3: Mouser; Supplier Part Number 3: 584-ADG608BRU; Packing: Tube; Mounting Technology: Surface Mount; Code_JEDEC: MO-153AB; ComponentLink1Description: Manufacturer URL; ComponentLink1URL: http://www.analog.com/en/index.html; ComponentLink2Description: Datasheet; ComponentLink2URL: http://www.analog.com/static/imported-files/data_sheets/ADG608_609.pdf; ComponentLink3Description: Package Specification; ComponentLink3URL: http:/www.analog.com/static/imported-files/packages/36244347913743854010197452789RU16.pdf
footprint ADI-RU-16_N (SOP, 16-Leads, Body 5x4.4mm, Pitch 0.65mm, IPC Medium Density)
footprint ADI-RU-16_L (SOP, 16-Leads, Body 5x4.4mm, Pitch 0.65mm, IPC High Density)
footprint ADI-RU-16_M (SOP, 16-Leads, Body 5x4.4mm, Pitch 0.65mm, IPC Low Density)
pins: 1 A0 (in), 2 EN (in), 3 VSS (power) "Most negative power supply potential in dual supplies. In single supply applications, it may be connected to ground.", 4 S1, 5 S2, 6 S3, 7 S4, 8 D, 9 S8, 10 S7, 11 S6, 12 S5, 13 VDD (power) "Most positive power supply potential.", 14 GND (power) "Ground (0 V) reference.", 15 A2 (in), 16 A1 (in)

## ADG608BRU-REEL7
designator U?
3 V / 5 V, 8 Channel High Performance Analog Multiplexer, -40 to 85 degC, 16-pin SOP (RU-16), Reel; Manufacturer: Analog Devices; PartNumber: ADG608BRU-REEL7; Max Analog Signal Range: Vss to Vdd; Ron (ohms): 22; Supply V Guar Performance: Dual_(+/-3.3V), Dual_(+/-5V), Single_(+3.3V), Single_(+5V); t transition (s): 50n; DatasheetVersion: Rev. A; PackageVersion: Nov-02; PackageReference: RU-16; PackageDescription: 16-Pin Thin Shrink Small Outline Package, Body 5 x 4.4 mm, Pitch 0.65 mm; Supplier 1: Digi-Key; Supplier Part Number 1: ADG608BRU-REEL7-ND; Supplier 2: Mouser; Supplier Part Number 2: 584-ADG608BRU-R7; Packing: Reel; Mounting Technology: Surface Mount; Code_JEDEC: MO-153AB; ComponentLink1Description: Manufacturer URL; ComponentLink1URL: http://www.analog.com/en/index.html; ComponentLink2Description: Datasheet; ComponentLink2URL: http://www.analog.com/static/imported-files/data_sheets/ADG608_609.pdf; ComponentLink3Description: Package Specification; ComponentLink3URL: http:/www.analog.com/static/imported-files/packages/36244347913743854010197452789RU16.pdf
footprint ADI-RU-16_N (SOP, 16-Leads, Body 5x4.4mm, Pitch 0.65mm, IPC Medium Density)
footprint ADI-RU-16_L (SOP, 16-Leads, Body 5x4.4mm, Pitch 0.65mm, IPC High Density)
footprint ADI-RU-16_M (SOP, 16-Leads, Body 5x4.4mm, Pitch 0.65mm, IPC Low Density)
pins: 1 A0 (in), 2 EN (in), 3 VSS (power) "Most negative power supply potential in dual supplies. In single supply applications, it may be connected to ground.", 4 S1, 5 S2, 6 S3, 7 S4, 8 D, 9 S8, 10 S7, 11 S6, 12 S5, 13 VDD (power) "Most positive power supply potential.", 14 GND (power) "Ground (0 V) reference.", 15 A2 (in), 16 A1 (in)

## ADG608BRUZ
designator U?
3 V / 5 V, 8 Channel High Performance Analog Multiplexer, -40 to 85 degC, 16-pin SOP (RU-16), Tube; Manufacturer: Analog Devices; PartNumber: ADG608BRUZ; Max Analog Signal Range: Vss to Vdd; Ron (ohms): 22; Supply V Guar Performance: Dual_(+/-3.3V), Dual_(+/-5V), Single_(+3.3V), Single_(+5V); t transition (s): 50n; DatasheetVersion: Rev. A; PackageVersion: Nov-02; PackageReference: RU-16; PackageDescription: 16-Pin Thin Shrink Small Outline Package, Body 5 x 4.4 mm, Pitch 0.65 mm; Supplier 1: Digi-Key; Supplier Part Number 1: ADG608BRUZ-ND; Supplier 2: Farnell; Supplier Part Number 2: 2305799; Supplier 3: Newark; Supplier Part Number 3: 77M9913; Supplier 4: Mouser; Supplier Part Number 4: 584-ADG608BRUZ; Packing: Tube; Mounting Technology: Surface Mount; Code_JEDEC: MO-153AB; ComponentLink1Description: Manufacturer URL; ComponentLink1URL: http://www.analog.com/en/index.html; ComponentLink2Description: Datasheet; ComponentLink2URL: http://www.analog.com/static/imported-files/data_sheets/ADG608_609.pdf; ComponentLink3Description: Package Specification; ComponentLink3URL: http:/www.analog.com/static/imported-files/packages/36244347913743854010197452789RU16.pdf
footprint ADI-RU-16_N (SOP, 16-Leads, Body 5x4.4mm, Pitch 0.65mm, IPC Medium Density)
footprint ADI-RU-16_L (SOP, 16-Leads, Body 5x4.4mm, Pitch 0.65mm, IPC High Density)
footprint ADI-RU-16_M (SOP, 16-Leads, Body 5x4.4mm, Pitch 0.65mm, IPC Low Density)
pins: 1 A0 (in), 2 EN (in), 3 VSS (power) "Most negative power supply potential in dual supplies. In single supply applications, it may be connected to ground.", 4 S1, 5 S2, 6 S3, 7 S4, 8 D, 9 S8, 10 S7, 11 S6, 12 S5, 13 VDD (power) "Most positive power supply potential.", 14 GND (power) "Ground (0 V) reference.", 15 A2 (in), 16 A1 (in)